# Altium footprint library F407-CORE.PcbLib: 18 footprints (part 1 of 2)
Each footprint in its own frame and in the unit in brackets; x right, y up, seen from the top. Pads: shape width x height; smd on the part's side, far side on the other; paste and mask are expansions set on the pad; w line width, h text height; cw(c..) or ccw(c..) is an arc to the next point about the centre after c.
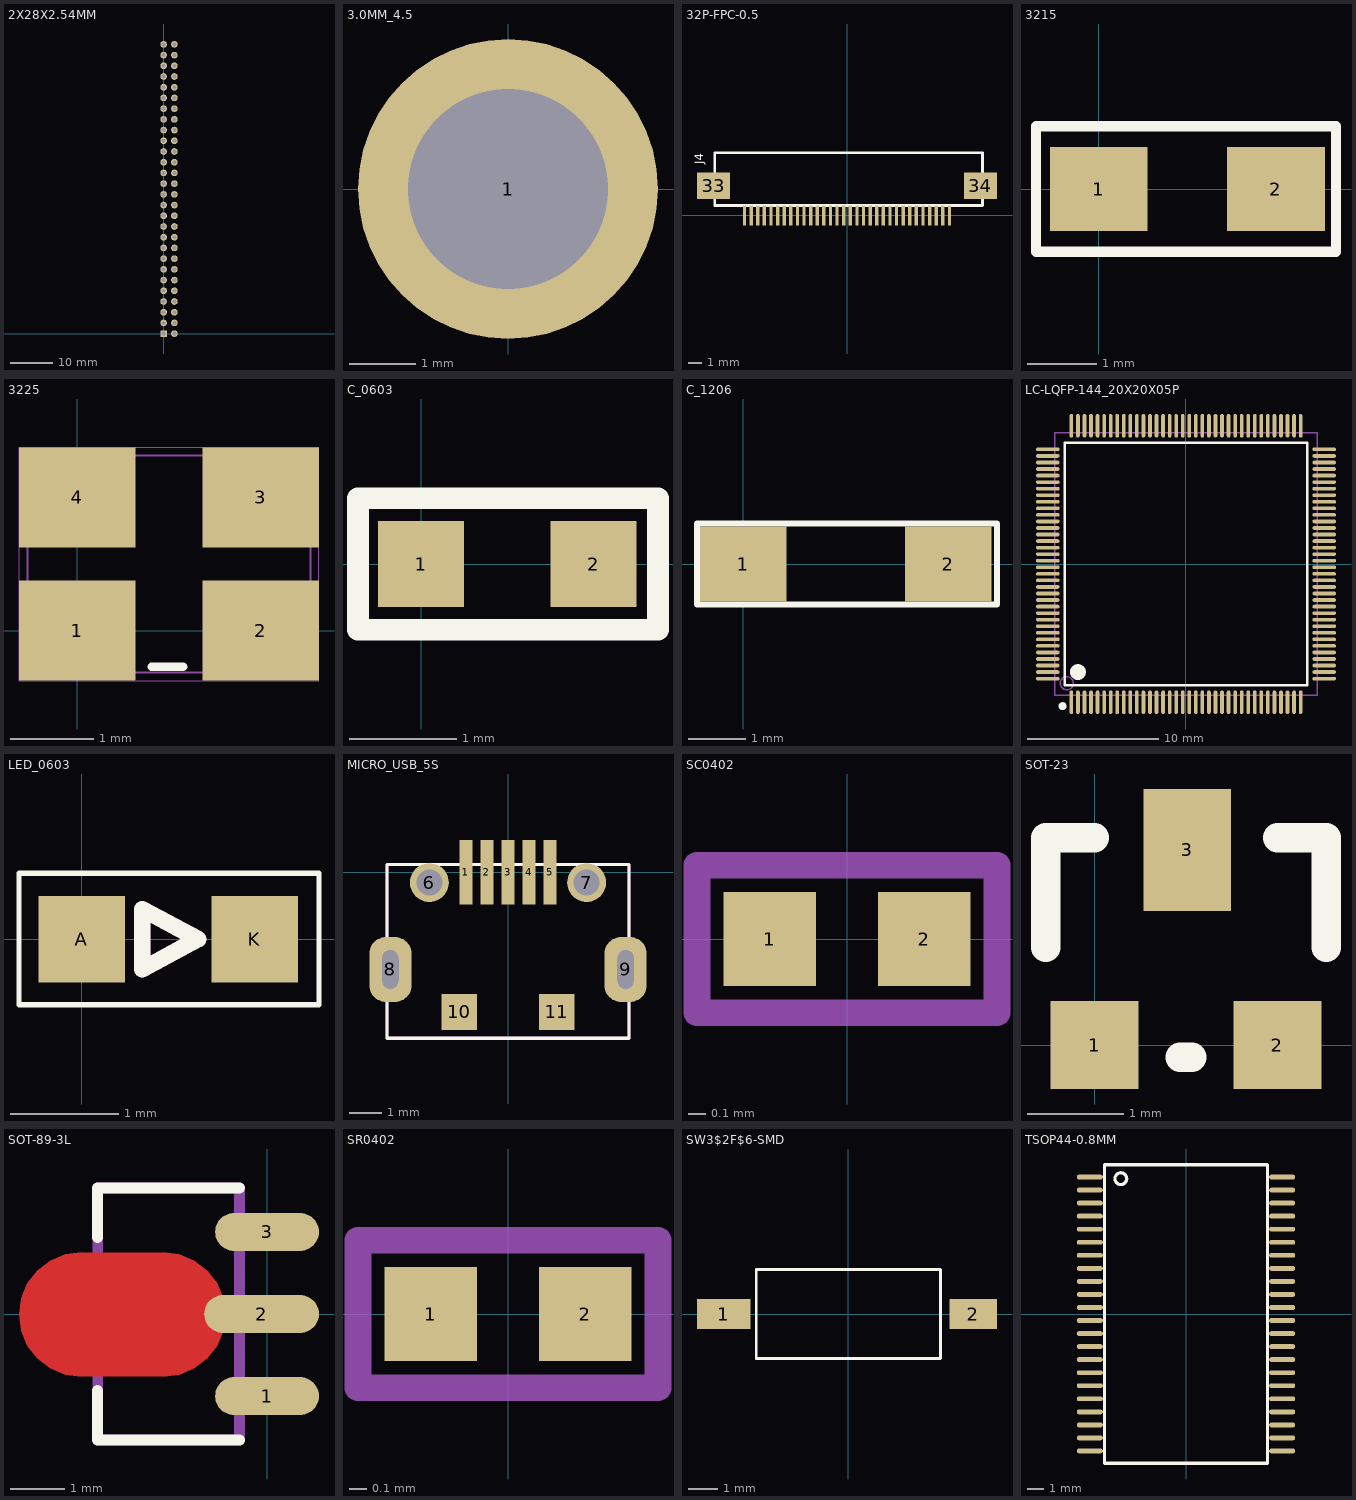
[diagram p0: the footprints below, top view; thin cyan lines are the x and y axes]

## 2X28X2.54MM [mil]
pads (56):
  rect 62x62 hole 35.43: 1(0,0)
  round 62 hole 35.43: 2(100,0) 3(0,100) 4(100,100) 5(0,200) 6(100,200) 7(0,300) 8(100,300) 9(0,400) 10(100,400) 11(0,500) 12(100,500) 13(0,600) 14(100,600) 15(0,700) 16(100,700) 17(0,800) 18(100,800) 19(0,900) 20(100,900) 21(0,1000) 22(100,1000) 23(0,1100) 24(100,1100) 25(0,1200) 26(100,1200) 27(0,1300) 28(100,1300) 29(0,1400) 30(100,1400) 31(0,1500) 32(100,1500) 33(0,1600) 34(100,1600) 35(0,1700) 36(100,1700) 37(0,1800) 38(100,1800) 39(0,1900) 40(100,1900) 41(0,2000) 42(100,2000) 43(0,2100) 44(100,2100) 45(0,2200) 46(100,2200) 47(0,2300) 48(100,2300) 49(0,2400) 50(100,2400) 51(0,2500) 52(100,2500) 53(0,2600) 54(100,2600) 55(0,2700) 56(100,2700)
Bottom Overlay:
  lines w12: -50,50 50,50 50,-50 ; -50,-50 -50,2750 150,2750 150,-50 -50,-50

## 3.0MM_4.5 [mm]
height 2.16
pads (1):
  round 4.5 hole 3: 1(0,0)

## 32P-FPC-0.5 [mm]
pads (34):
  rect 0.25x1.5 smd: 1(-7.75,0) 2(-7.25,0) 3(-6.75,0) 4(-6.25,0) 5(-5.75,0) 6(-5.25,0) 7(-4.75,0) 8(-4.25,0) 9(-3.75,0) 10(-3.25,0) 11(-2.75,0) 12(-2.25,0) 13(-1.75,0) 14(-1.25,0) 15(-0.75,0) 16(-0.25,0) 17(0.25,0) 18(0.75,0) 19(1.25,0) 20(1.75,0) 21(2.25,0) 22(2.75,0) 23(3.25,0) 24(3.75,0) 25(4.25,0) 26(4.75,0) 27(5.25,0) 28(5.75,0) 29(6.25,0) 30(6.75,0) 31(7.25,0) 32(7.75,0)
  rect 2.5x2 smd: 33(-10.1,2.25) 34(10.1,2.25)
Top Overlay:
  lines w0.2: -10,0.75 -10,4.75 10.25,4.75 10.25,0.75 -10,0.75
  text "J4" at -10.863,3.861 h0.64

## 3215 [mm]
pads (2):
  rect 1.4x1.2 smd: 1(0,0) 2(2.54,0)
Top Overlay:
  lines w0.15: -0.9,-0.9 3.4,-0.9 3.4,0.9 -0.9,0.9 -0.9,-0.9

## 3225 [mm]
pads (4):
  rect 1.4x1.2 smd paste-0.06 mask+0.05: 1(0,0) 2(2.2,0) 3(2.2,1.6) 4(0,1.6)
Top Overlay:
  lines w0.1: 0.889,-0.432 1.27,-0.432
Mechanical 15:
  lines w0.025: -0.6,-0.5 2.8,-0.5 2.8,2.1 -0.6,2.1 -0.6,-0.5
Mechanical 16:
  lines w0.003: -0.7,-0.6 2.9,-0.6 2.9,2.2 -0.7,2.2 -0.7,-0.6

## C_0603 [mm]
pads (2):
  rect 0.8x0.8 smd: 1(0,0) 2(1.6,0)
Top Overlay:
  lines w0.2: -0.584,-0.61 2.197,-0.61 2.197,0.61 -0.584,0.61 -0.584,-0.61

## C_1206 [mm]
pads (2):
  rect 1.5x1.3 smd: 1(0,0) 2(3.556,0)
Top Overlay:
  lines w0.1: -0.8,-0.7 -0.8,0.7 4.4,0.7 4.4,-0.7 -0.8,-0.7

## LC-LQFP-144_20X20X05P [mm]
pads (144):
  oval 0.28x1.8 smd mask+0.051: 1(-8.75,-10.55) 2(-8.25,-10.55) 3(-7.75,-10.55) 4(-7.25,-10.55) 5(-6.75,-10.55) 6(-6.25,-10.55) 7(-5.75,-10.55) 8(-5.25,-10.55) 9(-4.75,-10.55) 10(-4.25,-10.55) 11(-3.75,-10.55) 12(-3.25,-10.55) 13(-2.75,-10.55) 14(-2.25,-10.55) 15(-1.75,-10.55) 16(-1.25,-10.55) 17(-0.75,-10.55) 18(-0.25,-10.55) 19(0.25,-10.55) 20(0.75,-10.55) 21(1.25,-10.55) 22(1.75,-10.55) 23(2.25,-10.55) 24(2.75,-10.55) 25(3.25,-10.55) 26(3.75,-10.55) 27(4.25,-10.55) 28(4.75,-10.55) 29(5.25,-10.55) 30(5.75,-10.55) 31(6.25,-10.55) 32(6.75,-10.55) 33(7.25,-10.55) 34(7.75,-10.55) 35(8.25,-10.55) 36(8.75,-10.55) 73(8.75,10.55) 74(8.25,10.55) 75(7.75,10.55) 76(7.25,10.55) 77(6.75,10.55) 78(6.25,10.55) 79(5.75,10.55) 80(5.25,10.55) 81(4.75,10.55) 82(4.25,10.55) 83(3.75,10.55) 84(3.25,10.55) 85(2.75,10.55) 86(2.25,10.55) 87(1.75,10.55) 88(1.25,10.55) 89(0.75,10.55) 90(0.25,10.55) 91(-0.25,10.55) 92(-0.75,10.55) 93(-1.25,10.55) 94(-1.75,10.55) 95(-2.25,10.55) 96(-2.75,10.55) 97(-3.25,10.55) 98(-3.75,10.55) 99(-4.25,10.55) 100(-4.75,10.55) 101(-5.25,10.55) 102(-5.75,10.55) 103(-6.25,10.55) 104(-6.75,10.55) 105(-7.25,10.55) 106(-7.75,10.55) 107(-8.25,10.55) 108(-8.75,10.55)
  oval 1.8x0.28 smd mask+0.051: 37(10.55,-8.75) 38(10.55,-8.25) 39(10.55,-7.75) 40(10.55,-7.25) 41(10.55,-6.75) 42(10.55,-6.25) 43(10.55,-5.75) 44(10.55,-5.25) 45(10.55,-4.75) 46(10.55,-4.25) 47(10.55,-3.75) 48(10.55,-3.25) 49(10.55,-2.75) 50(10.55,-2.25) 51(10.55,-1.75) 52(10.55,-1.25) 53(10.55,-0.75) 54(10.55,-0.25) 55(10.55,0.25) 56(10.55,0.75) 57(10.55,1.25) 58(10.55,1.75) 59(10.55,2.25) 60(10.55,2.75) 61(10.55,3.25) 62(10.55,3.75) 63(10.55,4.25) 64(10.55,4.75) 65(10.55,5.25) 66(10.55,5.75) 67(10.55,6.25) 68(10.55,6.75) 69(10.55,7.25) 70(10.55,7.75) 71(10.55,8.25) 72(10.55,8.75) 109(-10.55,8.75) 110(-10.55,8.25) 111(-10.55,7.75) 112(-10.55,7.25) 113(-10.55,6.75) 114(-10.55,6.25) 115(-10.55,5.75) 116(-10.55,5.25) 117(-10.55,4.75) 118(-10.55,4.25) 119(-10.55,3.75) 120(-10.55,3.25) 121(-10.55,2.75) 122(-10.55,2.25) 123(-10.55,1.75) 124(-10.55,1.25) 125(-10.55,0.75) 126(-10.55,0.25) 127(-10.55,-0.25) 128(-10.55,-0.75) 129(-10.55,-1.25) 130(-10.55,-1.75) 131(-10.55,-2.25) 132(-10.55,-2.75) 133(-10.55,-3.25) 134(-10.55,-3.75) 135(-10.55,-4.25) 136(-10.55,-4.75) 137(-10.55,-5.25) 138(-10.55,-5.75) 139(-10.55,-6.25) 140(-10.55,-6.75) 141(-10.55,-7.25) 142(-10.55,-7.75) 143(-10.55,-8.25) 144(-10.55,-8.75)
Top Overlay:
  circle w0.3: c-9.425,-10.85 r0.15
  circle w0.6: c-8.25,-8.25 r0.3
  lines w0.2: -9.25,-9.25 -9.25,9.25 9.25,9.25 9.25,-9.25 -9.25,-9.25
Mechanical 16:
  circle w0.1: c-9.1,-9.1 r0.5
  lines w0.1: -10,-10 -10,10 10,10 10,-10 -10,-10

## LED_0603 [mm]
pads (2):
  rect 0.8x0.8 smd: A(0,0) K(1.6,0)
Top Overlay:
  lines w0.051: -0.579,-0.605 2.193,-0.605 2.193,0.607 -0.579,0.607 -0.579,-0.605
  lines w0.152: 0.562,-0.277 1.076,0.001 ; 0.562,-0.277 0.562,0.277 ; 0.562,-0.277 1.076,0.001 ; 0.562,-0.277 0.562,0.277 ; 0.562,0.277 1.076,0.001 ; 0.562,0.277 1.076,0.001
Mechanical 1:
  lines w0.152: 0.562,-0.277 1.076,0.001 0.562,0.277 0.562,-0.277

## MICRO_USB_5S [mm]
pads (11):
  rect 0.4x2 smd: 1(-1.3,0) 2(-0.65,0) 3(0,0) 4(0.65,0) 5(1.3,0)
  round 1.2 hole 0.8: 6(-2.425,-0.32) 7(2.425,-0.32)
  rrect77% 1.3x2 hole 0.5 slot 1.2 at 90 deg: 8(-3.625,-3) 9(3.625,-3)
  rect 1.1x1.1 smd: 10(-1.5,-4.31) 11(1.5,-4.31)
Top Overlay:
  lines w0.1: -3.73,-5.12 3.73,-5.12 3.73,0.235 -3.73,0.235 -3.73,-5.12
Mechanical 1:
  lines w0.1: -3.73,-5.12 3.73,-5.12 3.73,0.235 -3.73,0.235 -3.73,-5.12

## SC0402 [mm]
pads (2):
  rect 0.52x0.53 smd: 1(-0.435,0) 2(0.435,0)
Mechanical 1:
  lines w0.15: -0.845,-0.415 0.845,-0.415 0.845,0.415 -0.845,0.415 -0.845,-0.415

## SOT-23 [mil]
pads (3):
  rect 36x36 smd: 1(0,0) 2(75,0)
  rect 36x50 smd: 3(38,80)
Top Overlay:
  lines w12: -20,40 -20,85 0,85 ; 35,-5 40,-5 ; 75,85 95,85 95,40

## SOT-89-3L [mm]
pads (3):
  oval 1.9x0.7 smd: 1(0,-1.5) 3(0,1.5)
  oval 2.1x0.7 smd: 2(-0.1,0)
Top Layer:
  region: -3.399,-1.136 -1.899,-1.145 -1.605,-1.107 -1.33,-0.993 -1.095,-0.812 -0.914,-0.577 -0.801,-0.303 -0.762,-0.009 -0.801,0.286 -0.914,0.56 -1.095,0.795 -1.33,0.976 -1.605,1.089 -1.899,1.128 -1.899,1.118 -3.399,1.128 -3.693,1.089 -3.967,0.976 -4.202,0.795 -4.383,0.56 -4.497,0.286 -4.535,-0.009 -4.497,-0.303 -4.383,-0.577 -4.202,-0.812 -3.967,-0.993 -3.693,-1.107 -3.399,-1.145
Top Overlay:
  lines w0.2: -3.1,-1.4 -3.1,-2.3 -0.5,-2.3 ; -3.1,1.4 -3.1,2.3 -0.5,2.3
Mechanical 16:
  lines w0.2: -3.095,-2.3 -3.095,2.3 -0.505,2.3 -0.505,-2.3 -3.095,-2.3

## SR0402 [mm]
pads (2):
  rect 0.52x0.53 smd: 1(-0.435,0) 2(0.435,0)
Mechanical 1:
  lines w0.15: -0.845,-0.415 0.845,-0.415 0.845,0.415 -0.845,0.415 -0.845,-0.415

## SW3$2F$6-SMD [mm]
pads (2):
  rect 1.8x1 smd: 1(-4.191,0)
  rect 1.6x1 smd: 2(4.191,0)
Top Overlay:
  lines w0.1: -3.1,-1.5 -3.1,1.5 3.1,1.5 3.1,-1.5 -3.1,-1.5

## TSOP44-0.8MM [mm]
pads (44):
  oval 1.6x0.3 smd: 1(-5.9,8.4) 2(-5.9,7.6) 3(-5.9,6.8) 4(-5.9,6) 5(-5.9,5.2) 6(-5.9,4.4) 7(-5.9,3.6) 8(-5.9,2.8) 9(-5.9,2) 10(-5.9,1.2) 11(-5.9,0.4) 12(-5.9,-0.4) 13(-5.9,-1.2) 14(-5.9,-2) 15(-5.9,-2.8) 16(-5.9,-3.6) 17(-5.9,-4.4) 18(-5.9,-5.2) 19(-5.9,-6) 20(-5.9,-6.8) 21(-5.9,-7.6) 22(-5.9,-8.4) 23(5.9,-8.4) 24(5.9,-7.6) 25(5.9,-6.8) 26(5.9,-6) 27(5.9,-5.2) 28(5.9,-4.4) 29(5.9,-3.6) 30(5.9,-2.8) 31(5.9,-2) 32(5.9,-1.2) 33(5.9,-0.4) 34(5.9,0.4) 35(5.9,1.2) 36(5.9,2) 37(5.9,2.8) 38(5.9,3.6) 39(5.9,4.4) 40(5.9,5.2) 41(5.9,6) 42(5.9,6.8) 43(5.9,7.6) 44(5.9,8.4)
Top Overlay:
  circle w0.2: c-4,8.3 r0.361
  lines w0.2: -5,-9.15 5,-9.15 5,9.15 -5,9.15 -5,-9.15